# EAGLE library part 615008149521L (library Wurth_Elektronik_Electromechanic_Input-Output_Connectors_rev16b)
WR-MJ_Modular Jack_Tab UP_8P8C_Left Assembly 8P68 Tab UP_Left Assemblyt Housing Code : Con_WR-MJ_Horizontal_Plastic_6150xx149521 <http://katalog.we-online.de/media/images/eican/Con_WR-MJ_Horizontal_Plastic_6150xx149521_pf2.jpg> Details see: http://katalog.we-online.de/en/em/615_0xx_149_521/615_008_149_521_L?m Created 2014-12-22, aslant tao 2014 (C) Würth Elektronik
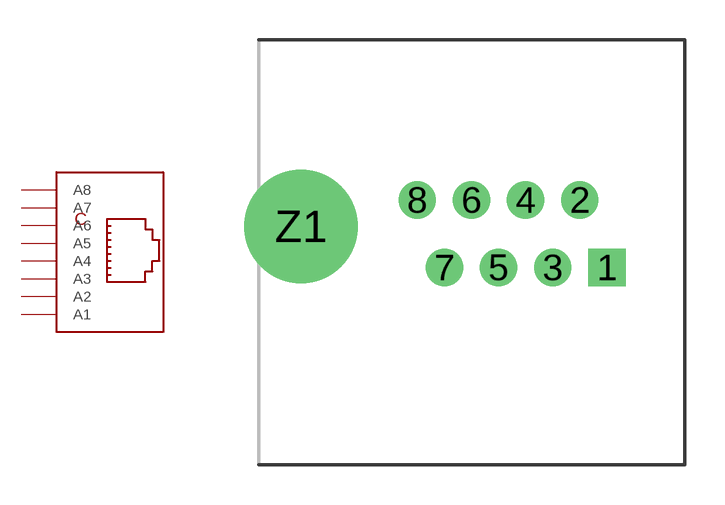
[diagram p169: symbol with the pads of 615008149521L; footprint 615008149521L]

Designator prefix J

## 615008149521L615008149521L  [615008149521L]
1  A1  pas
2  A2  pas
3  A3  pas
4  A4  pas
5  A5  pas
6  A6  pas
7  A7  pas
8  A8  pas

## Footprint 615008149521L (pad centres in mm)
WR-MJ_Modular Jack_Tab UP_8P8C_Left Assembly 8P68 Tab UP_Left Assemblyt Housing
drill 0.9 pad 1.4 square: 1 11.52,-1.54
drill 0.9 pad 1.4: 2 10.5,1; 3 9.48,-1.54; 4 8.46,1; 5 7.44,-1.54; 6 6.42,1; 7 5.4,-1.54; 8 4.38,1
drill 3.25: Z1 0,0